# Altium schematic symbol library lib_projet.SchLib: 1 symbol
Pins are listed as number, name and electrical type; pins without a type are passive.

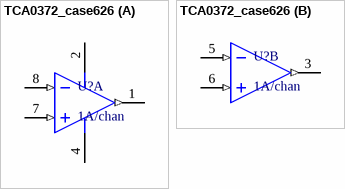
[diagram p0: symbol TCA0372_case626]

## TCA0372_case626
designator U?, comment 1A/chan
part A pins: 1 VOUT (out), 2 V+ (power), 4 V- (power), 7 VIN+ (in), 8 VIN- (in)
part B pins: 3 VOUT (out), 5 VIN- (in), 6 VIN+ (in)